# EAGLE library part M22-5320305R (library M22-5320305R)
2.00mm (0.079") Pitch DIL Vertical SMT Pin Header, gold, pick & place (Tape & Reel packing), 3+3 contacts Source: Datasheet <https://cdn.harwin.com/pdfs/M22-532R.pdf>
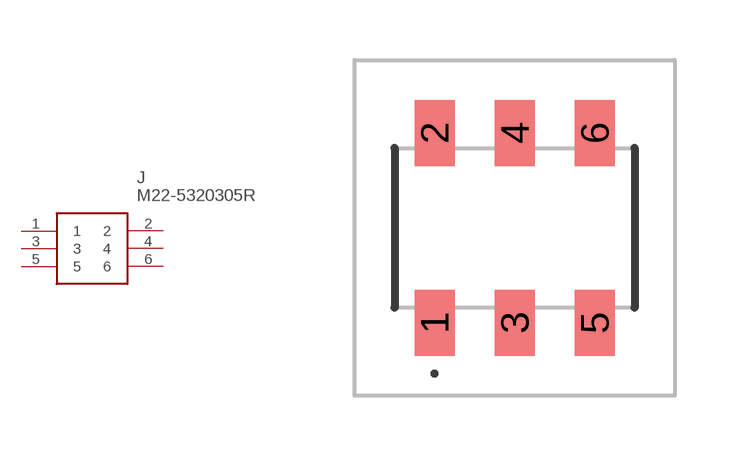
[diagram p0: symbol with the pads of M225320305R; footprint M225320305R]

Designator prefix J

## M22-5320305R (Description: 2.00mm (0.079") Pitch DIL Vertical SMT Pin Header, gold, pick & place (Tape & Reel packing), 3+3 contacts; Height: 7.3mm; Manufacturer_Name: Harwin; Manufacturer_Part_Number: M22-5320305R; Mouser_Part_Number: 855-M22-5320305R; Mouser_Price-Stock: https://www.mouser.co.uk/ProductDetail/Harwin/M22-5320305R?qs=vF78I%252BjhbY%252BtF2P5DN1inA%3D%3D)  [M225320305R]
1  1
2  2
3  3
4  4
5  5
6  6

## Footprint M225320305R (pad centres in mm)
M22-5320305R-2
smd 1 x 1.65: 1 -2,-2.375; 2 -2,2.375; 3 0,-2.375; 4 0,2.375; 5 2,-2.375; 6 2,2.375